# Altium footprint library varistor.PcbLib: 1 footprints
Each footprint in its own frame and in the unit in brackets; x right, y up, seen from the top. Pads: shape width x height; smd on the part's side, far side on the other; paste and mask are expansions set on the pad; w line width, h text height; cw(c..) or ccw(c..) is an arc to the next point about the centre after c.
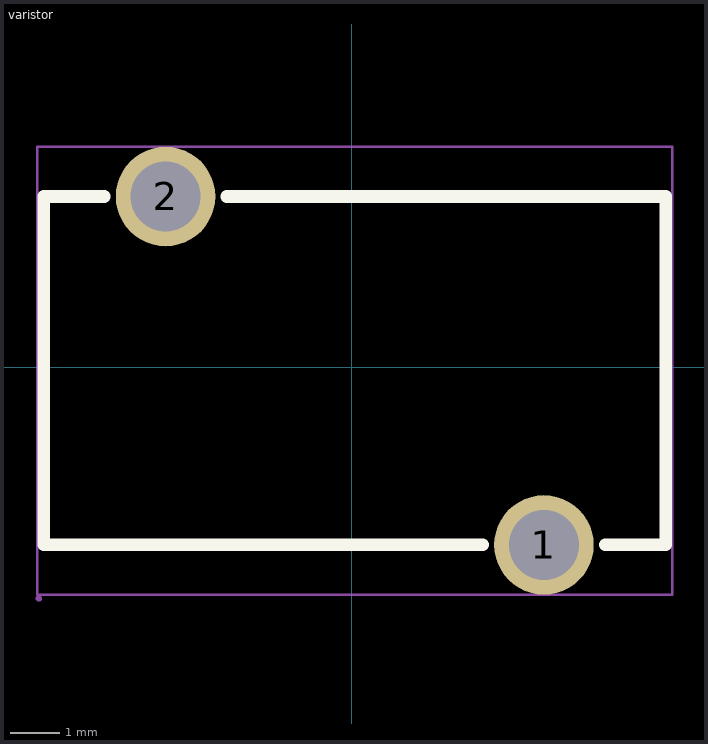
[diagram p0: the footprint, top view; thin cyan lines are the x and y axes]

## varistor [mm]
pads (2):
  round 2 hole 1.4 paste-2539.97 mask+0.051: 1(3.857,-3.567) 2(-3.743,3.433)
Top Overlay:
  lines w0.254: -4.974,3.433 -6.193,3.433 -6.193,-3.567 2.626,-3.567 ; -2.512,3.433 6.307,3.433 6.307,-3.567 5.088,-3.567
Mechanical 15:
  region: 4.457,-3.567 4.455,-3.449 4.363,-3.231 4.194,-3.065 3.975,-2.976 3.739,-2.976 3.52,-3.065 3.352,-3.231 3.259,-3.449 3.257,-3.567 3.259,-3.685 3.352,-3.903 3.52,-4.068 3.739,-4.158 3.975,-4.158 4.194,-4.068 4.363,-3.903 4.455,-3.685 4.457,-3.567
  region: -3.143,3.433 -3.145,3.551 -3.238,3.769 -3.406,3.935 -3.625,4.024 -3.861,4.024 -4.08,3.935 -4.248,3.769 -4.341,3.551 -4.343,3.433 -4.341,3.315 -4.248,3.097 -4.08,2.932 -3.861,2.842 -3.625,2.842 -3.406,2.932 -3.238,3.097 -3.145,3.315 -3.143,3.433
  region: -6.23,-4.639 -6.23,-4.614 -6.265,-4.579 -6.315,-4.579 -6.35,-4.614 -6.35,-4.639 -6.35,-4.664 -6.315,-4.699 -6.265,-4.699 -6.23,-4.664 -6.23,-4.639
  lines w0.051: -6.32,-4.567 6.434,-4.567 6.434,4.433 -6.32,4.433 -6.32,-4.567